# Altium schematic symbol library 智能家居.SchLib: 48 symbols
Pins are listed as number, name and electrical type; pins without a type are passive.

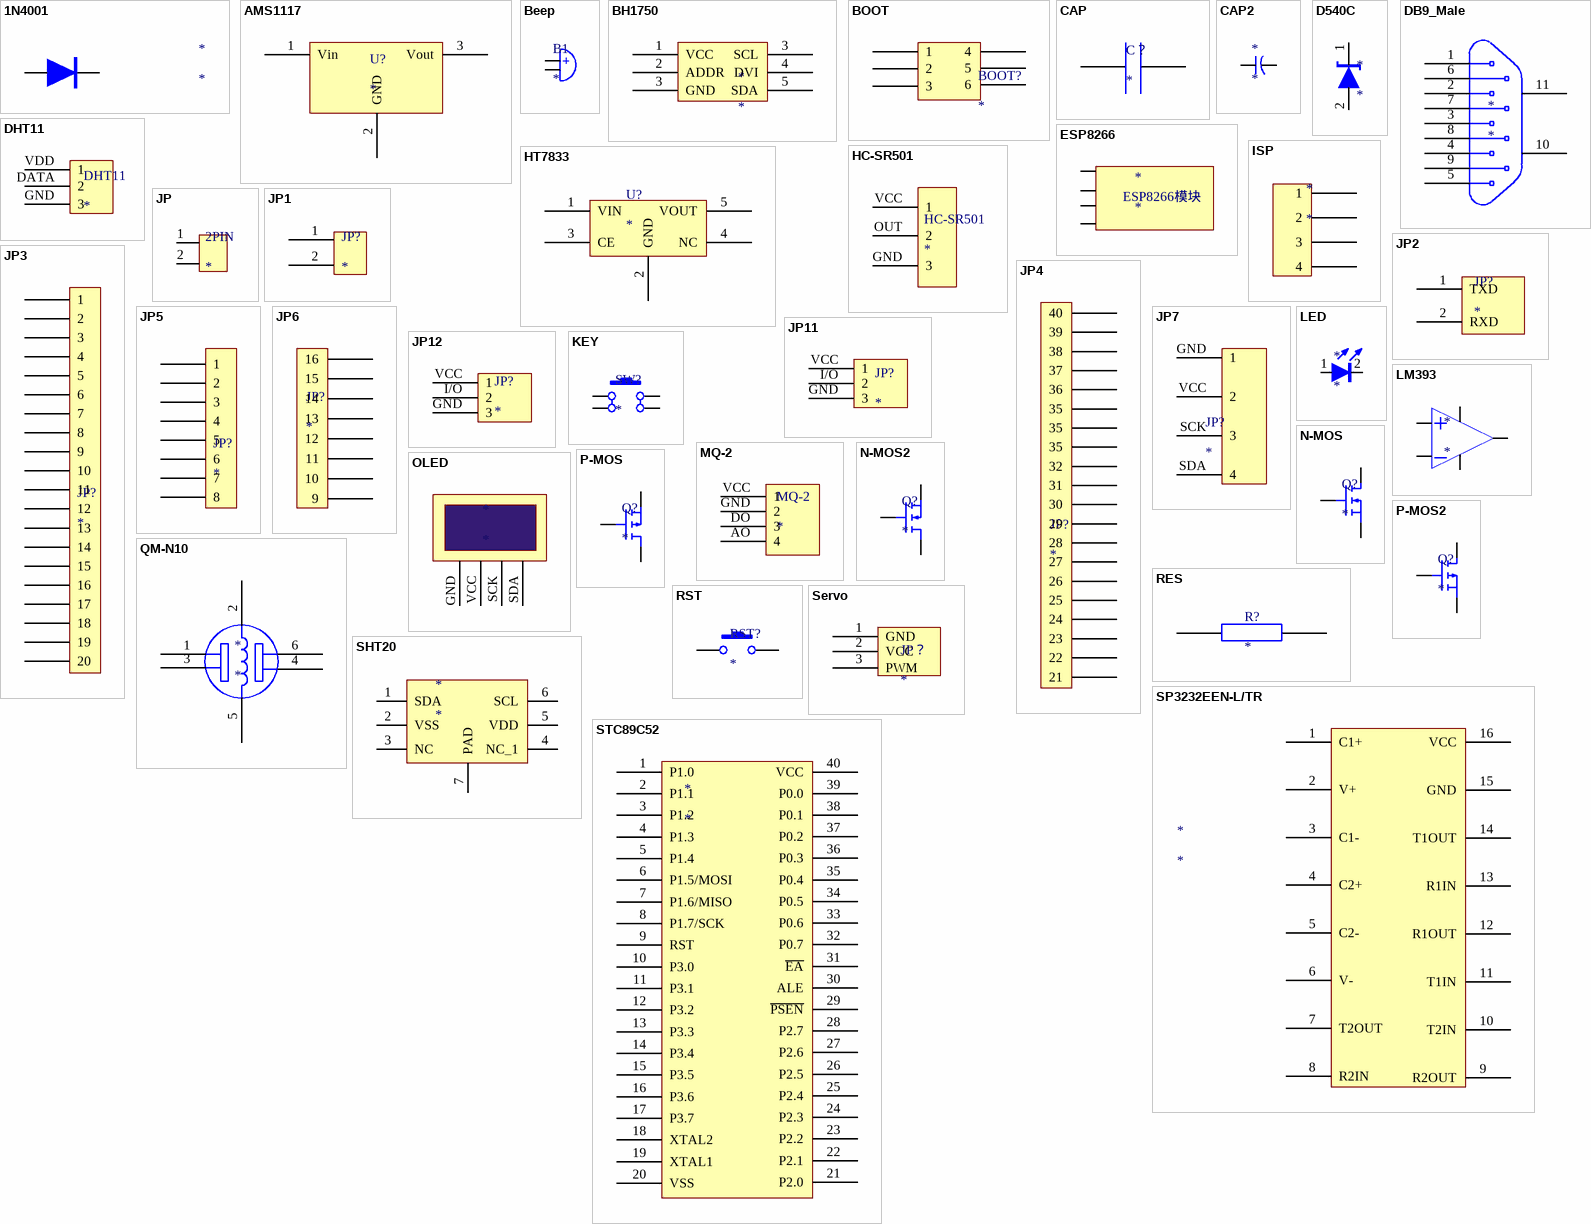
[diagram p0: symbols 1N4001 to STC89C52]

## 1N4001
designator *
二极管
pins: 21, 22

## AMS1117
designator U?
降压稳压
pins: 1 Vin, 2 GND, 3 Vout

## Beep
designator B1
蜂鸣器
pins: 1, 2

## BH1750
designator *
pins: 1 VCC, 2 ADDR, 3 GND, 3 SCL, 4 DVI, 5 SDA

## BOOT
designator BOOT?
BOOT电路
pins: 1, 2, 3, 4, 5, 6

## CAP
designator C？
电容
pins: 2, 3

## CAP2
designator *
pins: 1, 2

## D540C
designator *
稳压管
pins: 1, 2

## DB9_Male
designator *
9针串口线  RS232
pins: 1, 2, 3, 4, 5, 6, 7, 8, 9, 10, 11

## DHT11
designator DHT11
温湿度传感器
pins: DATA 2, GND 3, VDD 1

## ESP8266
designator *
pins: 1, 2, 3, 4
text: ESP8266模块

## HC-SR501
designator HC-SR501
人体红外热释电传感器
pins: GND 3, OUT 2, VCC 1

## HT7833
designator U?
5V转3.3V电路
pins: 1 VIN, 2 GND, 3 CE, 4 NC, 5 VOUT

## ISP
designator *
pins: 1, 2, 3, 4

## JP
designator 2PIN
插针
pins: 1, 2

## JP1
designator JP?
插针
pins: 1, 2

## JP2
designator JP?
USB转串口
pins: 1 TXD, 2 RXD

## JP3
designator JP?
STM32插针第一列
pins: 1, 2, 3, 4, 5, 6, 7, 8, 9, 10, 11, 12, 13, 14, 15, 16, 17, 18, 19, 20

## JP4
designator JP?
STM32插针第二列
pins: 21, 22, 23, 24, 25, 26, 27, 28, 29, 30, 31, 32, 33 35, 34 35, 35, 36, 37, 38, 39, 40

## JP5
designator JP?
直流电机驱动模块插针第一列
pins: 1, 2, 3, 4, 5, 6, 7, 8

## JP6
designator JP?
直流电机驱动模块第二列
pins: 9, 10, 11, 12, 13, 14, 15, 16

## JP7
designator JP?
OLED引脚插针
pins: GND 1, SCK 3, SDA 4, VCC 2

## JP11
designator JP?
蜂鸣器插针
pins: GND 3, I/O 2, VCC 1

## JP12
designator JP?
pins: GND 3, I/O 2, VCC 1

## KEY
designator SW?
普通按键
pins: 1, 2, 3, 4

## LED
designator *
发光二极管
pins: 1, 2

## LM393
designator *
光敏传感器模块
pins: ?1, ?2, ?3, ?4, ?5

## MQ-2
designator MQ-2
烟雾传感器
pins: AO 4, DO 3, GND 2, VCC 1

## N-MOS
designator Q?
N-MOS
pins: ?1, ?2, ?3

## N-MOS2
designator Q?
N-MOS2
pins: ?1, ?2, ?3

## OLED
designator *
OLED显示屏
pins: GND 1, SCK 3, SDA 4, VCC 2

## P-MOS
designator Q?
P-MOS
pins: ?1, ?2, ?3

## P-MOS2
designator Q?
P-MOS2
pins: ?1, ?2, ?3

## QM-N10
designator *
pins: 1, 2, 3, 4, 5, 6

## RES
designator R?
电阻
footprint 0402R
pins: 0, 1

## RST
designator RST?
复位
pins: 1, 2

## Servo
designator JP？
舵机
pins: 1 GND, 2 VCC, 3 PWM

## SHT20
designator *
CO2采集
pins: 1 SDA, 2 VSS, 3 NC, 4 NC_1, 5 VDD, 6 SCL, 7 PAD

## SP3232EEN-L/TR
designator *
RS-232接口集成电路
pins: 1 C1+, 2 V+, 3 C1-, 4 C2+, 5 C2-, 6 V-, 7 T2OUT, 8 R2IN, 9 R2OUT, 10 T2IN, 11 T1IN, 12 R1OUT, 13 R1IN, 14 T1OUT, 15 GND, 16 VCC

## STC89C52
designator *
pins: 1 P1.0, 2 P1.1, 3 P1.2, 4 P1.3, 5 P1.4, 6 P1.5/MOSI, 7 P1.6/MISO, 8 P1.7/SCK, 9 RST, 10 P3.0, 11 P3.1, 12 P3.2, 13 P3.3, 14 P3.4, 15 P3.5, 16 P3.6, 17 P3.7, 18 XTAL2, 19 XTAL1, 20 VSS, 21 P2.0, 22 P2.1, 23 P2.2, 24 P2.3, 25 P2.4, 26 P2.5, 27 P2.6, 28 P2.7, 29 ~{PSEN}, 30 ALE, 31 ~{EA}, 32 P0.7, 33 P0.6, 34 P0.5, 35 P0.4, 36 P0.3, 37 P0.2, 38 P0.1, 39 P0.0, 40 VCC

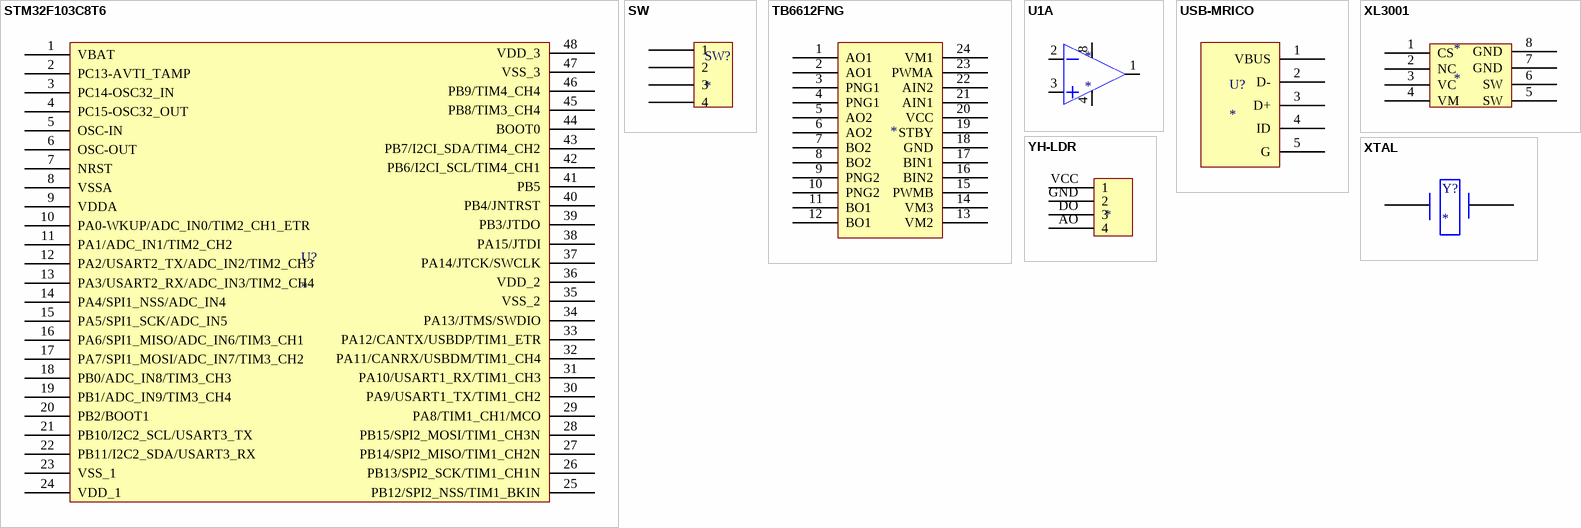
[diagram p1: symbols STM32F103C8T6 to YH-LDR]

## STM32F103C8T6
designator U?
单片机
pins: 1 VBAT, 2 PC13-AVTI_TAMP, 3 PC14-OSC32_IN, 4 PC15-OSC32_OUT, 5 OSC-IN, 6 OSC-OUT, 7 NRST, 8 VSSA, 9 VDDA, 10 PA0-WKUP/ADC_IN0/TIM2_CH1_ETR, 11 PA1/ADC_IN1/TIM2_CH2, 12 PA2/USART2_TX/ADC_IN2/TIM2_CH3, 13 PA3/USART2_RX/ADC_IN3/TIM2_CH4, 14 PA4/SPI1_NSS/ADC_IN4, 15 PA5/SPI1_SCK/ADC_IN5, 16 PA6/SPI1_MISO/ADC_IN6/TIM3_CH1, 17 PA7/SPI1_MOSI/ADC_IN7/TIM3_CH2, 18 PB0/ADC_IN8/TIM3_CH3, 19 PB1/ADC_IN9/TIM3_CH4, 20 PB2/BOOT1, 21 PB10/I2C2_SCL/USART3_TX, 22 PB11/I2C2_SDA/USART3_RX, 23 VSS_1, 24 VDD_1, 25 PB12/SPI2_NSS/TIM1_BKIN, 26 PB13/SPI2_SCK/TIM1_CH1N, 27 PB14/SPI2_MISO/TIM1_CH2N, 28 PB15/SPI2_MOSI/TIM1_CH3N, 29 PA8/TIM1_CH1/MCO, 30 PA9/USART1_TX/TIM1_CH2, 31 PA10/USART1_RX/TIM1_CH3, 32 PA11/CANRX/USBDM/TIM1_CH4, 33 PA12/CANTX/USBDP/TIM1_ETR, 34 PA13/JTMS/SWDIO, 35 VSS_2, 36 VDD_2, 37 PA14/JTCK/SWCLK, 38 PA15/JTDI, 39 PB3/JTDO, 40 PB4/JNTRST, 41 PB5, 42 PB6/I2CI_SCL/TIM4_CH1, 43 PB7/I2CI_SDA/TIM4_CH2, 44 BOOT0, 45 PB8/TIM3_CH4, 46 PB9/TIM4_CH4, 47 VSS_3, 48 VDD_3

## SW
designator SW?
SW下载接口
pins: 1, 2, 3, 4

## TB6612FNG
designator ?
直流电机驱动模块
pins: 1 AO1, 2 AO1, 3 PNG1, 4 PNG1, 5 AO2, 6 AO2, 7 BO2, 8 BO2, 9 PNG2, 10 PNG2, 11 BO1, 12 BO1, 13 VM2, 14 VM3, 15 PWMB, 16 BIN2, 17 BIN1, 18 GND, 19 STBY, 20 VCC, 21 AIN1, 22 AIN2, 23 PWMA, 24 VM1

## U1A
designator *
比较器
pins: 1, 2, 3, 4, 8

## USB-MRICO
designator U?
电源电路
pins: 1 VBUS, 2 D-, 3 D+, 4 ID, 5 G

## XL3001
designator *
开关电流降压型
pins: 1 CS, 2 NC, 3 VC, 4 VM, 5 SW, 6 SW, 7 GND, 8 GND

## XTAL
designator Y?
晶振
pins: 61, 61

## YH-LDR
designator ?
光敏传感器
pins: AO 4, DO 3, GND 2, VCC 1